# Altium footprint library RES.PcbLib: 14 footprints
Each footprint in its own frame and in the unit in brackets; x right, y up, seen from the top. Pads: shape width x height; smd on the part's side, far side on the other; paste and mask are expansions set on the pad; w line width, h text height; cw(c..) or ccw(c..) is an arc to the next point about the centre after c.
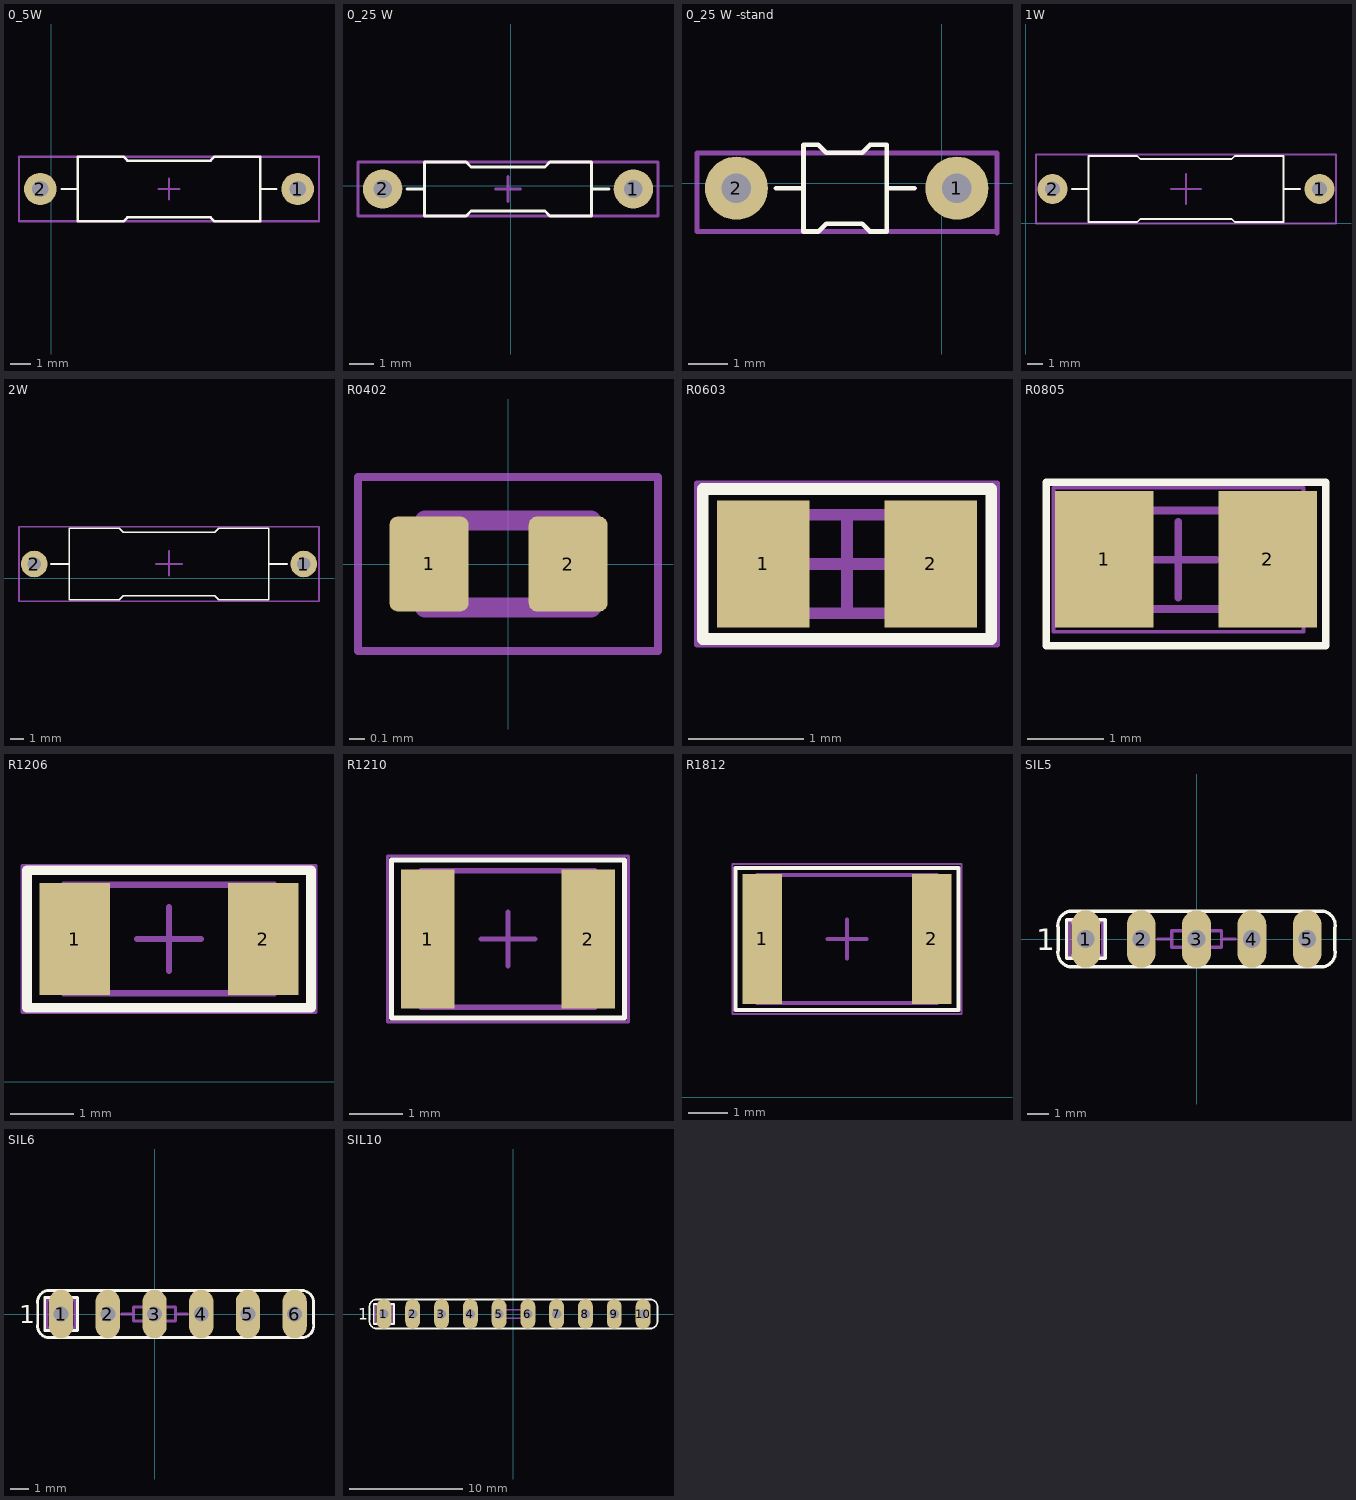
[diagram p0: the footprints below, top view; thin cyan lines are the x and y axes]

## 0_5W [mm]
height 0.152
pads (2):
  round 1.6 hole 0.8: 1(12.157,8.763) 2(-0.543,8.763)
Top Overlay:
  lines w0.12: 0.507,8.763 1.307,8.763 ; 10.307,8.763 11.107,8.763 ; 1.307,7.163 1.307,10.363 3.557,10.363 3.757,10.163 7.857,10.163 8.057,10.363 10.307,10.363 10.307,7.163 8.057,7.163 7.857,7.363 3.757,7.363 3.557,7.163 1.307,7.163
Mechanical 15:
  lines w0.12: 5.307,8.763 6.307,8.763 ; 5.807,8.263 5.807,9.263 ; -1.593,7.163 -1.593,10.363 13.207,10.363 13.207,7.163 -1.593,7.163
3D body "User Library-Res50 0_5W SilCoat.STEP": height 4.02, standoff -1.3, extent -0.893,7.113 12.507,10.413

## 0_25 W [mm]
height 5
pads (2):
  round 1.6 hole 0.75: 1(4.993,-0.127) 2(-5.207,-0.127)
Top Overlay:
  lines w0.12: -4.207,-0.127 -3.507,-0.127 ; 3.293,-0.127 3.993,-0.127 ; -3.507,-1.227 -3.507,0.973 -1.807,0.973 -1.607,0.773 1.393,0.773 1.593,0.973 3.293,0.973 3.293,-1.227 1.593,-1.227 1.393,-1.027 -1.607,-1.027 -1.807,-1.227 -3.507,-1.227
Mechanical 15:
  lines w0.12: -0.607,-0.127 0.393,-0.127 ; -0.107,-0.627 -0.107,0.373 ; -6.207,-1.227 -6.207,0.973 5.993,0.973 5.993,-1.227 -6.207,-1.227
3D body "SW3dPS-RESISTOR, 0.25 W, 0.4 IN LEAD PITCH.STEP": height 3.63, standoff -1.84, extent -5.512,-1.283 5.258,1.029

## 0_25 W -stand [mm]
height 5
pads (2):
  round 1.6 hole 0.75: 1(0.381,-0.127) 2(-5.207,-0.127)
Top Overlay:
  lines w0.12: -4.207,-0.127 -3.507,-0.127 ; -1.397,-0.127 -0.697,-0.127 ; -3.507,-1.227 -3.507,0.973 -3.132,0.973 -2.932,0.773 -2.021,0.773 -1.821,0.973 -1.397,0.973 -1.397,-1.227 -1.821,-1.227 -2.021,-1.027 -2.932,-1.027 -3.132,-1.227 -3.507,-1.227
Mechanical 15:
  lines w0.12: -0.353,-0.127 0.647,-0.127 ; 0.147,-0.627 0.147,0.373 ; 1.397,-1.27 1.397,0.719 ; 1.397,-1.227 -6.207,-1.227 -6.207,0.762 1.397,0.762

## 1W [mm]
height 7
pads (2):
  round 2 hole 1: 1(19.578,2.286) 2(1.778,2.286)
Top Overlay:
  lines w0.12: 3.078,2.286 4.178,2.286 ; 17.178,2.286 18.278,2.286 ; 4.178,0.086 4.178,4.486 7.428,4.486 7.628,4.286 13.728,4.286 13.928,4.486 17.178,4.486 17.178,0.086 13.928,0.086 13.728,0.286 7.628,0.286 7.428,0.086 4.178,0.086
Mechanical 15:
  lines w0.12: 9.678,2.286 11.678,2.286 ; 10.678,1.286 10.678,3.286 ; 0.678,-0.014 0.678,4.586 20.678,4.586 20.678,-0.014 0.678,-0.014
3D body "User Library-Res70 1W SilCoat.STEP": height 5.22, standoff -1.3, extent 1.413,0.036 19.943,4.536

## 2W [mm]
height 8
pads (2):
  round 2 hole 1: 1(25.246,1.08) 2(4.946,1.08)
Top Overlay:
  lines w0.12: 6.196,1.08 7.596,1.08 ; 22.596,1.08 23.996,1.08 ; 7.596,-1.62 11.346,-1.62 11.646,-1.32 18.546,-1.32 18.846,-1.62 22.596,-1.62 22.596,3.78 18.846,3.78 18.546,3.48 11.646,3.48 11.346,3.78 7.596,3.78 7.596,-1.62
Mechanical 15:
  lines w0.12: 14.096,1.08 16.096,1.08 ; 15.096,0.18 15.096,2.08 ; 3.796,-1.72 26.396,-1.72 26.396,3.88 3.796,3.88 3.796,-1.72
3D body "User Library-Res80 2W SilCoat.STEP": height 5.97, standoff -1.3, extent 4.531,-1.67 25.661,3.83

## R0402 [mm]
pads (2):
  rrect20% 0.5x0.6 smd: 1(-0.5,0) 2(0.381,0)
Mechanical 13:
  lines w0.127: -0.525,-0.275 -0.525,0.275 0.525,0.275 0.525,-0.275 -0.525,-0.275
Mechanical 15:
  lines w0.05: -0.95,-0.55 -0.95,0.55 0.95,0.55 0.95,-0.55 -0.95,-0.55
3D body "2-1879459-5.stp": height 0.31, standoff -0.01, extent -0.5,-0.25 0.5,0.25

## R0603 [mm]
height 0.4
pads (2):
  rect 0.8x1.1 smd: 1(2.417,1.568) 2(3.867,1.568)
Top Overlay:
  lines w0.1: 2.242,0.918 4.392,0.918 4.392,2.218 3.767,2.218 ; 2.517,0.918 1.892,0.918 1.892,2.218 3.932,2.218
Mechanical 13:
  lines w0.1: 2.317,1.143 3.967,1.143 3.967,1.993 2.317,1.993 2.317,1.143
Mechanical 15:
  lines w0.05: 1.842,0.868 4.442,0.868 4.442,2.268 1.842,2.268 1.842,0.868
  lines w0.1: 2.717,1.568 3.567,1.568 ; 3.142,1.143 3.142,1.993
3D body "CAP0603.step": height 0.4, standoff 0, extent 2.317,1.143 3.967,1.993

## R0805 [mil]
height 19.68
pads (2):
  rect 51.18x70.87 smd: 1(210,105) 2(295,105)
Top Overlay:
  lines w3.94: 280,60 289.86,60 310.87,60 325,60 325,145 223.41,145 180,145 180,60 287.95,60
Mechanical 13:
  lines w3.94: 208.23,79.13 208.23,130.31 288.94,130.31 288.94,79.13 208.23,79.13
Mechanical 15:
  lines w1.97: 183.62,67.32 183.62,142.13 313.54,142.13 313.54,67.32 183.62,67.32
  lines w3.94: 228.9,104.72 268.27,104.72 ; 248.58,85.04 248.58,124.41
3D body "CAP0805.step": height 19.68, standoff 0, extent 208.23,79.13 288.94,130.31

## R1206 [mm]
height 0.94
pads (2):
  rect 1.1x1.75 smd: 1(2.821,2.24) 2(5.771,2.24)
Top Overlay:
  lines w0.15: 2.071,1.165 5.409,1.165 6.521,1.165 6.521,3.315 5.409,3.315 2.071,3.315 2.071,1.165
Mechanical 13:
  lines w0.1: 2.646,1.39 2.646,3.09 5.946,3.09 5.946,1.39 2.646,1.39
Mechanical 15:
  lines w0.05: 1.996,1.09 1.996,3.39 6.596,3.39 6.596,1.09 1.996,1.09
  lines w0.1: 3.796,2.24 4.796,2.24 ; 4.296,1.74 4.296,2.74
3D body "CAP1206.step": height 0.94, standoff 0, extent 2.646,1.39 5.946,3.09

## R1210 [mm]
height 0.55
pads (2):
  rect 1x2.6 smd: 1(4.753,3.979) 2(7.753,3.979)
Top Overlay:
  lines w0.1: 4.078,2.504 7.34,2.504 8.428,2.504 8.428,5.454 7.34,5.454 4.078,5.454 4.078,2.504
Mechanical 13:
  lines w0.1: 4.628,2.704 7.878,2.704 7.878,5.254 4.628,5.254 4.628,2.704
Mechanical 15:
  lines w0.05: 4.003,2.429 8.503,2.429 8.503,5.529 4.003,5.529 4.003,2.429
  lines w0.1: 5.753,3.979 6.753,3.979 ; 6.253,3.479 6.253,4.479
3D body "CAP1210.step": height 0.55, standoff 0, extent 4.628,2.704 7.878,5.254

## R1812 [mm]
height 0.55
pads (2):
  rect 1x3.3 smd: 1(5.346,4.008) 2(9.646,4.008)
Top Overlay:
  lines w0.1: 4.671,2.208 8.909,2.208 10.321,2.208 10.321,5.808 8.909,5.808 4.671,5.808 4.671,2.208
Mechanical 13:
  lines w0.1: 5.221,2.383 9.771,2.383 9.771,5.633 5.221,5.633 5.221,2.383
Mechanical 15:
  lines w0.05: 4.596,2.108 10.396,2.108 10.396,5.908 4.596,5.908 4.596,2.108
  lines w0.1: 6.996,4.008 7.996,4.008 ; 7.496,3.508 7.496,4.508
3D body "CAP1812.step": height 0.55, standoff 0, extent 5.221,2.383 9.771,5.633

## SIL5 [mil]
pads (5):
  oval 52x104 hole 32: 1(-200,0) 2(-100,0) 3(0,0) 4(100,0) 5(200,0)
Top Overlay:
  lines w6: -250.03,-20.14 ccw(c-225,-25) -229.86,-50.03 ; -250.03,20.14 cw(c-225,25) -229.86,50.03 ; -250,-20 -250,20 ; -230,-50 230,-50 ; -230,50 230,50 ; 229.86,-50.03 ccw(c225,-25) 250.03,-20.14 ; 229.86,50.03 cw(c225,25) 250.03,20.14 ; 250,-20 250,20 ; -235,-35 -235,35 -165,35 -165,-35 -235,-35
  text "1" at -290,-20 h39
Mechanical 13:
  lines w6: -70,0 -45,0 ; 70,0 45,0 ; -45,0 -45,15 45,15 45,0 ; -45,0 -45,-15 45,-15 45,0 ; -230,-30 -230,30 -170,30 -170,-30 -230,-30
3D body "4605x-101-103lf.stp": height 234.06, standoff -95.87, extent -250,-49.01 248.03,49.02

## SIL6 [mil]
pads (6):
  oval 52x104 hole 32: 1(-200,0) 2(-100,0) 3(0,0) 4(100,0) 5(200,0) 6(300,0)
Top Overlay:
  lines w6: -250.03,-20.14 ccw(c-225,-25) -229.86,-50.03 ; -250.03,20.14 cw(c-225,25) -229.86,50.03 ; -250,-20 -250,20 ; -230,-50 320,-50 ccw(c315.14,-24.97) 340.16,-20.11 ; -230,50 320,50 ; 319.84,49.89 cw(c314.97,24.86) 340,20 340,-20 ; -235,-35 -235,35 -165,35 -165,-35 -235,-35
  text "1" at -290,-20 h39
Mechanical 13:
  lines w6: -70,0 -45,0 ; 70,0 45,0 ; -45,0 -45,15 45,15 45,0 ; -45,0 -45,-15 45,-15 45,0 ; -230,-30 -230,30 -170,30 -170,-30 -230,-30
3D body "4606x-101-103lf.stp": height 234.06, standoff -95.87, extent -253.03,-49.01 345,49.01

## SIL10 [mil]
pads (10):
  oval 52x104 hole 32: 1(-450,0) 2(-350,0) 3(-250,0) 4(-150,0) 5(-50,0) 6(50,0) 7(150,0) 8(250,0) 9(350,0) 10(450,0)
Top Overlay:
  lines w6: -500.03,-20.14 ccw(c-475,-25) -479.86,-50.03 ; -500.03,20.14 cw(c-475,25) -479.86,50.03 ; -500,-20 -500,20 ; -480,-50 480,-50 ; -480,50 480,50 ; 479.86,-50.03 ccw(c475,-25) 500.03,-20.14 ; 479.86,50.03 cw(c475,25) 500.03,20.14 ; 500,-20 500,20 ; -485,-35 -415,-35 -415,35 -485,35 -485,-35
  text "1" at -540,-20 h39
Mechanical 13:
  lines w6: -70,0 -45,0 ; 70,0 45,0 ; -45,0 -45,-15 45,-15 45,0 ; -45,0 -45,15 45,15 45,0 ; -480,-30 -420,-30 -420,30 -480,30 -480,-30
3D body "4610x-102-102lf.stp": height 234.06, standoff -95.87, extent -499.01,-50 499.02,48.03